# Altium footprint library Gravix-RES.PcbLib: 1 footprints
Each footprint in its own frame and in the unit in brackets; x right, y up, seen from the top. Pads: shape width x height; smd on the part's side, far side on the other; paste and mask are expansions set on the pad; w line width, h text height; cw(c..) or ccw(c..) is an arc to the next point about the centre after c.
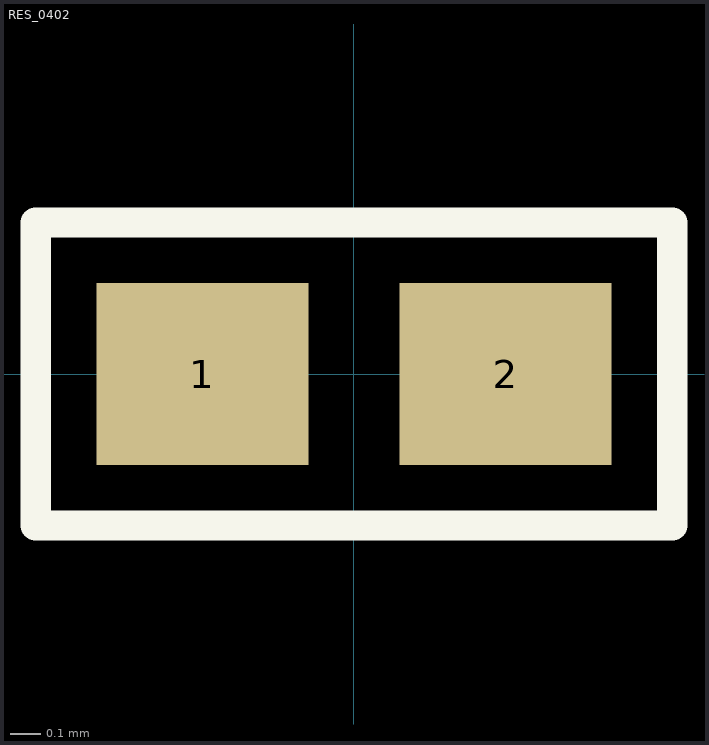
[diagram p0: the footprint, top view; thin cyan lines are the x and y axes]

## RES_0402 [mm]
pads (2):
  rect 0.7x0.6 smd: 1(-0.5,0) 2(0.5,0)
Top Overlay:
  lines w0.1: -1.05,-0.5 -1.05,0 -1.05,0.5 1.05,0.5 1.05,-0.5 -1.05,-0.5
3D body "RC0402FR-070RL.STEP": height 0.4, standoff 0, extent -0.487,-0.25 0.513,0.25